# Altium schematic symbol library LCMXO2-4000HC-4TG144C.SchLib: 1 symbol
Pins are listed as number, name and electrical type; pins without a type are passive.

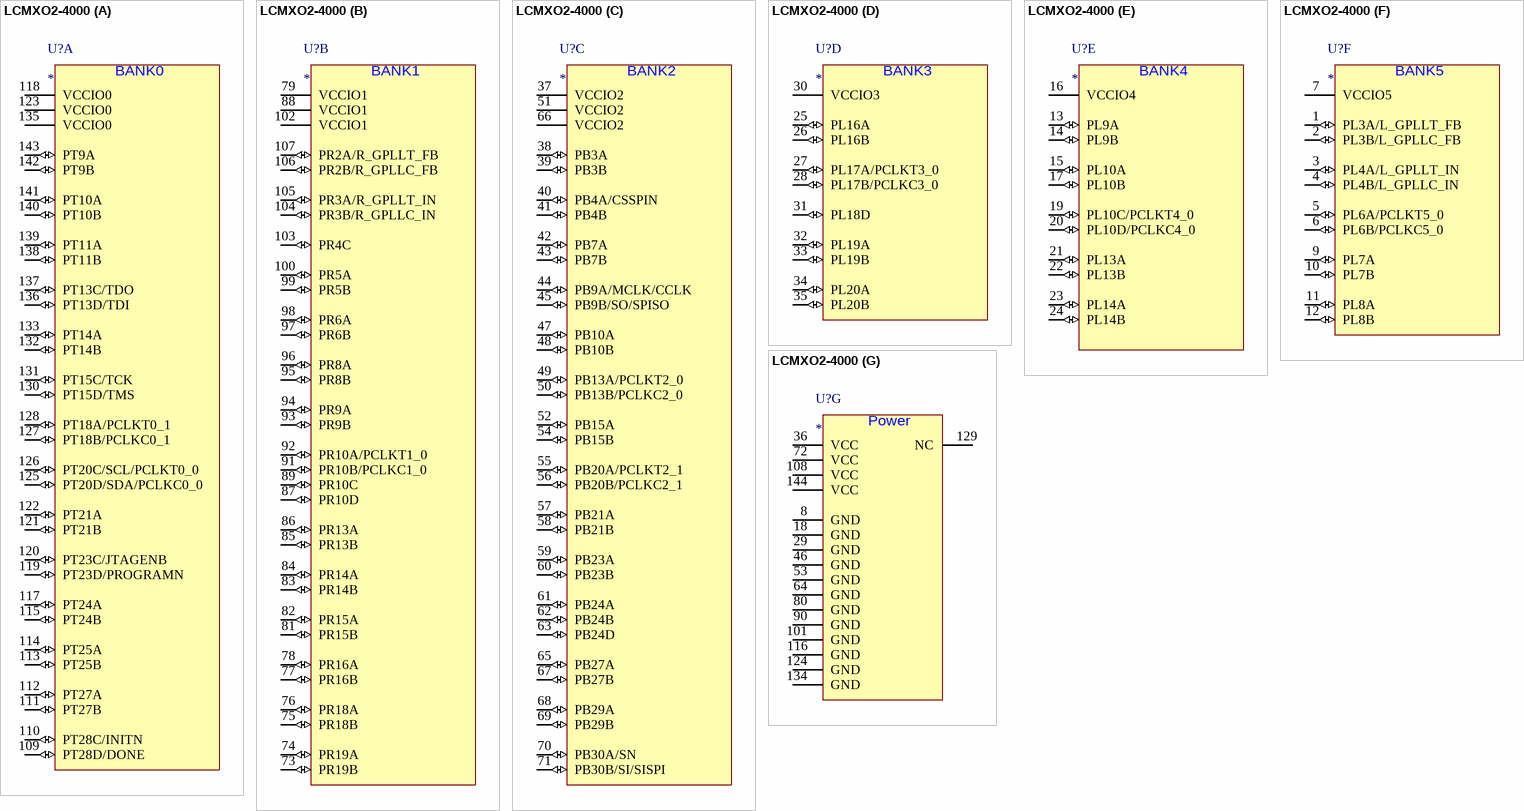
[diagram p0: symbol LCMXO2-4000]

## LCMXO2-4000
designator U?
part A pins: 109 PT28D/DONE (io), 110 PT28C/INITN (io), 111 PT27B (io), 112 PT27A (io), 113 PT25B (io), 114 PT25A (io), 115 PT24B (io), 117 PT24A (io), 118 VCCIO0 (power), 119 PT23D/PROGRAMN (io), 120 PT23C/JTAGENB (io), 121 PT21B (io), 122 PT21A (io), 123 VCCIO0 (power), 125 PT20D/SDA/PCLKC0_0 (io), 126 PT20C/SCL/PCLKT0_0 (io), 127 PT18B/PCLKC0_1 (io), 128 PT18A/PCLKT0_1 (io), 130 PT15D/TMS (io), 131 PT15C/TCK (io), 132 PT14B (io), 133 PT14A (io), 135 VCCIO0 (power), 136 PT13D/TDI (io), 137 PT13C/TDO (io), 138 PT11B (io), 139 PT11A (io), 140 PT10B (io), 141 PT10A (io), 142 PT9B (io), 143 PT9A (io)
part B pins: 73 PR19B (io), 74 PR19A (io), 75 PR18B (io), 76 PR18A (io), 77 PR16B (io), 78 PR16A (io), 79 VCCIO1 (power), 81 PR15B (io), 82 PR15A (io), 83 PR14B (io), 84 PR14A (io), 85 PR13B (io), 86 PR13A (io), 87 PR10D (io), 88 VCCIO1 (power), 89 PR10C (io), 91 PR10B/PCLKC1_0 (io), 92 PR10A/PCLKT1_0 (io), 93 PR9B (io), 94 PR9A (io), 95 PR8B (io), 96 PR8A (io), 97 PR6B (io), 98 PR6A (io), 99 PR5B (io), 100 PR5A (io), 102 VCCIO1 (power), 103 PR4C (io), 104 PR3B/R_GPLLC_IN (io), 105 PR3A/R_GPLLT_IN (io), 106 PR2B/R_GPLLC_FB (io), 107 PR2A/R_GPLLT_FB (io)
part C pins: 37 VCCIO2 (power), 38 PB3A (io), 39 PB3B (io), 40 PB4A/CSSPIN (io), 41 PB4B (io), 42 PB7A (io), 43 PB7B (io), 44 PB9A/MCLK/CCLK (io), 45 PB9B/SO/SPISO (io), 47 PB10A (io), 48 PB10B (io), 49 PB13A/PCLKT2_0 (io), 50 PB13B/PCLKC2_0 (io), 51 VCCIO2 (power), 52 PB15A (io), 54 PB15B (io), 55 PB20A/PCLKT2_1 (io), 56 PB20B/PCLKC2_1 (io), 57 PB21A (io), 58 PB21B (io), 59 PB23A (io), 60 PB23B (io), 61 PB24A (io), 62 PB24B (io), 63 PB24D (io), 65 PB27A (io), 66 VCCIO2 (power), 67 PB27B (io), 68 PB29A (io), 69 PB29B (io), 70 PB30A/SN (io), 71 PB30B/SI/SISPI (io)
part D pins: 25 PL16A (io), 26 PL16B (io), 27 PL17A/PCLKT3_0 (io), 28 PL17B/PCLKC3_0 (io), 30 VCCIO3 (power), 31 PL18D (io), 32 PL19A (io), 33 PL19B (io), 34 PL20A (io), 35 PL20B (io)
part E pins: 13 PL9A (io), 14 PL9B (io), 15 PL10A (io), 16 VCCIO4 (power), 17 PL10B (io), 19 PL10C/PCLKT4_0 (io), 20 PL10D/PCLKC4_0 (io), 21 PL13A (io), 22 PL13B (io), 23 PL14A (io), 24 PL14B (io)
part F pins: 1 PL3A/L_GPLLT_FB (io), 2 PL3B/L_GPLLC_FB (io), 3 PL4A/L_GPLLT_IN (io), 4 PL4B/L_GPLLC_IN (io), 5 PL6A/PCLKT5_0 (io), 6 PL6B/PCLKC5_0 (io), 7 VCCIO5 (power), 9 PL7A (io), 10 PL7B (io), 11 PL8A (io), 12 PL8B (io)
part G pins: 8 GND (power), 18 GND (power), 29 GND (power), 36 VCC (power), 46 GND (power), 53 GND (power), 64 GND (power), 72 VCC (power), 80 GND (power), 90 GND (power), 101 GND (power), 108 VCC (power), 116 GND (power), 124 GND (power), 129 NC, 134 GND (power), 144 VCC (power)
part A text: BANK0
part B text: BANK1
part C text: BANK2
part D text: BANK3
part E text: BANK4
part F text: BANK5
part G text: Power